# Altium footprint library 集成块.PcbLib: 75 footprints (part 2 of 5)
Each footprint in its own frame and in the unit in brackets; x right, y up, seen from the top. Pads: shape width x height; smd on the part's side, far side on the other; paste and mask are expansions set on the pad; w line width, h text height; cw(c..) or ccw(c..) is an arc to the next point about the centre after c.
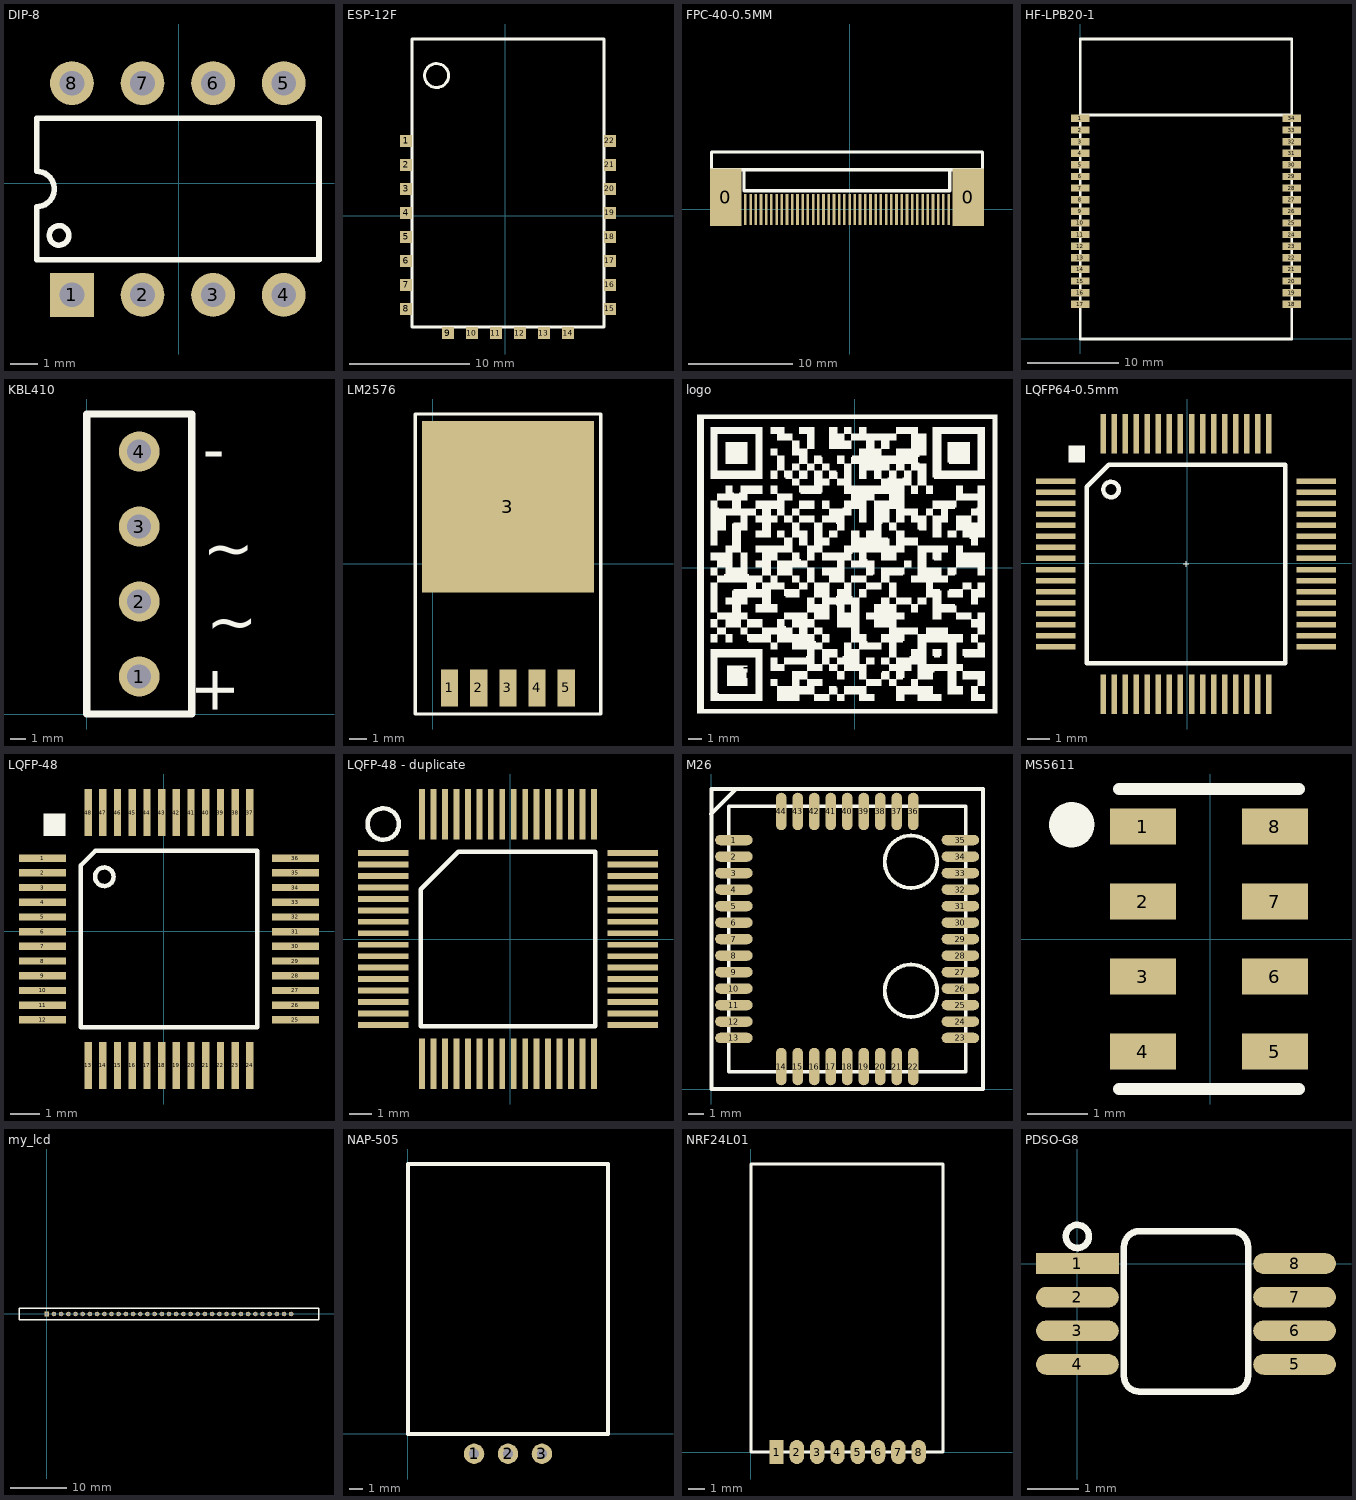
[diagram p1: the footprints below, top view; thin cyan lines are the x and y axes]

## DIP-8 [mil]
pads (8):
  rect 62x62 hole 35: 1(-151,-158)
  round 62 hole 35: 2(-51,-158) 3(49,-158) 4(149,-158) 5(149,142) 6(49,142) 7(-51,142) 8(-151,142)
Top Overlay:
  circle w7.87: c-169.31,-73.71 r13.78
  lines w7.87: -201,-108 199,-108 199,92 -201,92 -201,17 cw(c-201,-8) -201,-33 -201,-108

## ESP-12F [mm]
pads (22):
  rect 1x1 smd: 1(-8.272,6.229) 2(-8.272,4.229) 3(-8.272,2.229) 4(-8.272,0.229) 5(-8.272,-1.771) 6(-8.272,-3.771) 7(-8.272,-5.771) 8(-8.272,-7.771) 9(-4.772,-9.771) 10(-2.772,-9.771) 11(-0.772,-9.771) 12(1.228,-9.771) 13(3.228,-9.771) 14(5.228,-9.771) 15(8.728,-7.771) 16(8.728,-5.771) 17(8.728,-3.771) 18(8.728,-1.771) 19(8.728,0.229) 20(8.728,2.229) 21(8.728,4.229) 22(8.728,6.229)
Top Overlay:
  circle w0.254: c-5.724,11.684 r1
  lines w0.254: -7.772,-9.271 -7.772,14.729 8.228,14.729 8.228,-9.271 -7.772,-9.271

## FPC-40-0.5MM [mm]
pads (42):
  rect 3x5.5 smd: 0(-11.887,1.159) 0(11.387,1.159)
  rect 0.25x3 smd: 1(-10,0) 2(-9.5,0) 3(-9,0) 4(-8.5,0) 5(-8,0) 6(-7.5,0) 7(-7,0) 8(-6.5,0) 9(-6,0) 10(-5.5,0) 11(-5,0) 12(-4.5,0) 13(-4,0) 14(-3.5,0) 15(-3,0) 16(-2.5,0) 17(-2,0) 18(-1.5,0) 19(-1,0) 20(-0.5,0) 21(0,0) 22(0.5,0) 23(1,0) 24(1.5,0) 25(2,0) 26(2.5,0) 27(3,0) 28(3.5,0) 29(4,0) 30(4.5,0) 31(5,0) 32(5.5,0) 33(6,0) 34(6.5,0) 35(7,0) 36(7.5,0) 37(8,0) 38(8.5,0) 39(9,0) 40(9.5,0)
Top Overlay:
  lines w0.305: -13.25,3.804 -13.25,5.504 ; -13.25,5.5 12.75,5.5 12.75,3.8 12.15,3.8 -12.65,3.8 ; -13.225,3.804 -12.625,3.804 ; -10.125,1.804 -10.125,3.81 ; -10.109,1.794 9.609,1.794 9.609,3.8

## HF-LPB20-1 [mm]
pads (34):
  rect 2x0.8 smd: 1(0,24.12) 2(0,22.85) 3(0,21.58) 4(0,20.31) 5(0,19.04) 6(0,17.77) 7(0,16.5) 8(0,15.23) 9(0,13.96) 10(0,12.69) 11(0,11.42) 12(0,10.15) 13(0,8.88) 14(0,7.61) 15(0,6.34) 16(0,5.07) 17(0,3.8) 18(23.1,3.8) 19(23.1,5.07) 20(23.1,6.34) 21(23.1,7.61) 22(23.1,8.88) 23(23.1,10.15) 24(23.1,11.42) 25(23.1,12.69) 26(23.1,13.96) 27(23.1,15.23) 28(23.1,16.5) 29(23.1,17.77) 30(23.1,19.04) 31(23.1,20.31) 32(23.1,21.58) 33(23.1,22.85) 34(23.1,24.12)
Top Overlay:
  lines w0.3: 0,24.5 23.075,24.5 ; 0,0 23.1,0 23.1,32.8 0,32.8 0,0

## KBL410 [mm]
pads (4):
  round 2.7 hole 1.6: 1(3.5,2.5) 2(3.5,7.5) 3(3.5,12.5) 4(3.5,17.5)
Top Overlay:
  lines w0.5: 0,0 0,20 7,20 7,0 0,0
  text "+" at 7.315,3.277 h3
  text "-" at 7.747,16.18 h3
  text "~" at 7.747,9.601 h3
  text "~" at 7.976,4.724 h3

## LM2576 [mm]
pads (6):
  rect 1x2.16 smd: 1(0.984,-7.239) 2(2.684,-7.239) 3(4.384,-7.239) 4(6.084,-7.239) 5(7.784,-7.239)
  rect 10x10 smd: 3(4.384,3.311)
Top Overlay:
  lines w0.2: -1.012,-1.636 -1.012,8.714 9.788,8.714 9.788,-1.696
  lines w0.203: -1.012,-1.636 -1.012,-8.761 9.788,-8.761 9.788,-1.696

## logo [mm]
Top Overlay:
  drawing of 2348 lines, arcs and shapes, not listed

## LQFP64-0.5mm [mm]
pads (64):
  rect 1.8x0.25 smd: 1(-5.951,3.725) 2(-5.951,3.225) 3(-5.951,2.725) 4(-5.951,2.225) 5(-5.951,1.725) 6(-5.951,1.225) 7(-5.951,0.725) 8(-5.951,0.225) 9(-5.951,-0.275) 10(-5.951,-0.775) 11(-5.951,-1.275) 12(-5.951,-1.775) 13(-5.951,-2.275) 14(-5.951,-2.775) 15(-5.951,-3.275) 16(-5.951,-3.775) 33(5.849,-3.775) 34(5.849,-3.275) 35(5.849,-2.775) 36(5.849,-2.275) 37(5.849,-1.775) 38(5.849,-1.275) 39(5.849,-0.775) 40(5.849,-0.275) 41(5.849,0.225) 42(5.849,0.725) 43(5.849,1.225) 44(5.849,1.725) 45(5.849,2.225) 46(5.849,2.725) 47(5.849,3.225) 48(5.849,3.725)
  rect 0.25x1.8 smd: 17(-3.801,-5.925) 18(-3.301,-5.925) 19(-2.801,-5.925) 20(-2.301,-5.925) 21(-1.801,-5.925) 22(-1.301,-5.925) 23(-0.801,-5.925) 24(-0.301,-5.925) 25(0.199,-5.925) 26(0.699,-5.925) 27(1.199,-5.925) 28(1.699,-5.925) 29(2.199,-5.925) 30(2.699,-5.925) 31(3.199,-5.925) 32(3.699,-5.925) 49(3.699,5.875) 50(3.199,5.875) 51(2.699,5.875) 52(2.199,5.875) 53(1.699,5.875) 54(1.199,5.875) 55(0.699,5.875) 56(0.199,5.875) 57(-0.301,5.875) 58(-0.801,5.875) 59(-1.301,5.875) 60(-1.801,5.875) 61(-2.301,5.875) 62(-2.801,5.875) 63(-3.301,5.875) 64(-3.801,5.875)
Top Overlay:
  circle w0.2: c-3.451,3.35 r0.35
  region: -5.376,5.35 -5.376,4.575 -4.626,4.575 -4.626,5.35
  lines w0.001: -0.171,-0.025 0.069,-0.025 ; -0.051,-0.145 -0.051,0.095
  lines w0.2: -4.551,3.475 -4.551,-4.525 4.449,-4.525 4.449,4.475 -3.551,4.475
  lines w0.203: -4.551,3.475 -3.551,4.475

## LQFP-48 [mm]
pads (48):
  rect 1.6x0.25 smd: 1(-4.117,2.48) 2(-4.117,1.98) 3(-4.117,1.48) 4(-4.117,0.98) 5(-4.117,0.48) 6(-4.117,-0.02) 7(-4.117,-0.52) 8(-4.117,-1.02) 9(-4.117,-1.52) 10(-4.117,-2.02) 11(-4.117,-2.52) 12(-4.117,-3.02) 25(4.483,-3.02) 26(4.483,-2.52) 27(4.483,-2.02) 28(4.483,-1.52) 29(4.483,-1.02) 30(4.483,-0.52) 31(4.483,-0.02) 32(4.483,0.48) 33(4.483,0.98) 34(4.483,1.48) 35(4.483,1.98) 36(4.483,2.48)
  rect 0.25x1.6 smd: 13(-2.567,-4.57) 14(-2.067,-4.57) 15(-1.567,-4.57) 16(-1.067,-4.57) 17(-0.567,-4.57) 18(-0.067,-4.57) 19(0.433,-4.57) 20(0.933,-4.57) 21(1.433,-4.57) 22(1.933,-4.57) 23(2.433,-4.57) 24(2.933,-4.57) 37(2.933,4.03) 38(2.433,4.03) 39(1.933,4.03) 40(1.433,4.03) 41(0.933,4.03) 42(0.433,4.03) 43(-0.067,4.03) 44(-0.567,4.03) 45(-1.067,4.03) 46(-1.567,4.03) 47(-2.067,4.03) 48(-2.567,4.03)
Top Overlay:
  circle w0.152: c-2.017,1.846 r0.316
  region: -4.092,4.005 -4.092,3.23 -3.342,3.23 -3.342,4.005
  lines w0.152: -2.817,-3.27 3.183,-3.27 3.183,2.73 -2.317,2.73 -2.817,2.23 -2.817,-3.27

## LQFP-48 - duplicate [mil]
pads (64):
  rect 86.61x10 smd: 1(-218.13,147.85) 2(-218.13,128.16) 3(-218.13,108.48) 4(-218.13,88.8) 5(-218.13,69.11) 6(-218.13,49.42) 7(-218.13,29.74) 8(-218.13,10.05) 9(-218.13,-9.63) 10(-218.13,-29.32) 11(-218.13,-49) 12(-218.13,-68.69) 13(-218.13,-88.37) 14(-218.13,-108.06) 15(-218.13,-127.74) 16(-218.13,-147.43) 33(211,-147.43) 34(211,-127.74) 35(211,-108.06) 36(211,-88.37) 37(211,-68.69) 38(211,-49) 39(211,-29.32) 40(211,-9.63) 41(211,10.05) 42(211,29.74) 43(211,49.42) 44(211,69.11) 45(211,88.8) 46(211,108.48) 47(211,128.16) 48(211,147.85)
  rect 10x86.61 smd: 17(-151.2,-214.35) 18(-131.52,-214.35) 19(-111.83,-214.35) 20(-92.15,-214.35) 21(-72.46,-214.35) 22(-52.78,-214.35) 23(-33.09,-214.35) 24(-13.41,-214.35) 25(6.28,-214.35) 26(25.96,-214.35) 27(45.65,-214.35) 28(65.33,-214.35) 29(85.02,-214.35) 30(104.7,-214.35) 31(124.39,-214.35) 32(144.07,-214.35) 49(144.07,214.78) 50(124.39,214.78) 51(104.7,214.78) 52(85.02,214.78) 53(65.33,214.78) 54(45.65,214.78) 55(25.96,214.78) 56(6.28,214.78) 57(-13.41,214.78) 58(-33.09,214.78) 59(-52.78,214.78) 60(-72.46,214.78) 61(-92.15,214.78) 62(-111.83,214.78) 63(-131.52,214.78) 64(-151.2,214.78)
Top Overlay:
  circle w7.87: c-218.13,197.85 r26.93
  lines w7.87: -153.76,-149.98 146.63,-149.98 146.63,150.41 -89.39,150.41 -153.76,86.04 -153.76,-149.98

## M26 [mm]
pads (44):
  oval 2.5x0.7 smd: 1(1.5,16.6) 2(1.5,15.5) 3(1.5,14.4) 4(1.5,13.3) 5(1.5,12.2) 6(1.5,11.1) 7(1.5,10) 8(1.5,8.9) 9(1.5,7.8) 10(1.5,6.7) 11(1.5,5.6) 12(1.5,4.5) 13(1.5,3.4) 23(16.6,3.4) 24(16.6,4.5) 25(16.6,5.6) 26(16.6,6.7) 27(16.6,7.8) 28(16.6,8.9) 29(16.6,10) 30(16.6,11.1) 31(16.6,12.2) 32(16.6,13.3) 33(16.6,14.4) 34(16.6,15.5) 35(16.6,16.6)
  oval 0.7x2.5 smd: 14(4.65,1.5) 15(5.75,1.5) 16(6.85,1.5) 17(7.95,1.5) 18(9.05,1.5) 19(10.15,1.5) 20(11.25,1.5) 21(12.35,1.5) 22(13.45,1.5) 36(13.45,18.5) 37(12.35,18.5) 38(11.25,18.5) 39(10.15,18.5) 40(9.05,18.5) 41(7.95,18.5) 42(6.85,18.5) 43(5.75,18.5) 44(4.65,18.5)
Top Overlay:
  circle w0.254: c13.3,15.15 r1.75
  circle w0.254: c13.3,6.55 r1.75
  lines w0.254: -0.025,18.339 1.636,20 1.676,20 ; 16.95,18.842 16.95,1.15 1.15,1.15 1.15,18.85 16.95,18.85 ; 0,0 18.1,0 18.1,20 0,20 0,0

## MS5611 [mm]
pads (8):
  rect 1.1x0.6 smd: 1(-1.125,1.875) 2(-1.125,0.625) 3(-1.125,-0.625) 4(-1.125,-1.875) 5(1.075,-1.875) 6(1.075,-0.625) 7(1.075,0.625) 8(1.075,1.875)
Top Overlay:
  circle w0.5: c-2.311,1.905 r0.127
  lines w0.2: -1.525,-2.5 1.475,-2.5 ; -1.525,2.5 1.475,2.5

## my_lcd [mm]
pads (35):
  rect 0.8x0.8 hole 0.5: 1(0,0)
  round 0.8 hole 0.5: 2(1.27,0) 3(2.54,0) 4(3.81,0) 5(5.08,0) 6(6.35,0) 7(7.62,0) 8(8.89,0) 9(10.16,0) 10(11.43,0) 11(12.7,0) 12(13.97,0) 13(15.24,0) 14(16.51,0) 15(17.78,0) 16(19.05,0) 17(20.32,0) 18(21.59,0) 19(22.86,0) 20(24.13,0) 21(25.4,0) 22(26.67,0) 23(27.94,0) 24(29.21,0) 25(30.48,0) 26(31.75,0) 27(33.02,0) 28(34.29,0) 29(35.56,0) 30(36.83,0) 31(38.1,0) 32(39.37,0) 33(40.64,0) 34(41.91,0) 35(43.18,0)
Top Overlay:
  lines w0.254: -4.91,-1 48.09,-1 48.09,1 -4.91,1 -4.91,-1

## NAP-505 [mil]
pads (3):
  round 60 hole 30: 1(195.28,-59.06) 2(295.28,-59.06) 3(395.28,-59.06)
Top Overlay:
  lines w11.81: 590,795.28 0,795.28 0,0 590.55,0 590.55,795.28

## NRF24L01 [mm]
pads (8):
  rect 0.9x1.5 smd: 1(1.6,0)
  oval 0.9x1.5 smd: 2(2.87,0) 3(4.14,0) 4(5.41,0) 5(6.68,0) 6(7.95,0) 7(9.22,0) 8(10.49,0)
Top Overlay:
  lines w0.2: 0,0 12.014,0 12.014,18.009 0,18.009 0,0

## PDSO-G8 [mm]
pads (8):
  rect 1.6x0.4 smd: 1(0,0)
  oval 1.6x0.4 smd: 2(0,-0.65) 3(0,-1.3) 4(0,-1.95) 5(4.2,-1.95) 6(4.2,-1.3) 7(4.2,-0.65) 8(4.2,0)
Top Overlay:
  circle w0.127: c0,0.525 r0.224
  lines w0.127: 0.9,-2.175 ccw(c1.2,-2.175) 1.2,-2.475 3,-2.475 ccw(c3,-2.175) 3.3,-2.175 3.3,0.325 ccw(c3,0.325) 3,0.625 1.2,0.625 ccw(c1.2,0.325) 0.9,0.325 0.9,-2.175